# EAGLE library part TS5A3153 (library m-pad)
Ti's TS5A3153 is a single-pole double-throw (SPDT) analog switch Description: The TS5A3153 is a single-pole double-throw (SPDT) analog switch that is designed to operate from 1.65 V to 5.5 V. The device offers a low ON-state resistance and an excellent on-resistance matching with the break-before-make feature, to prevent signal distortion during the transferring of a signal from one channel to another. The device has an excellent total harmonic distortion (THD) performance and consumes very low power. These features make this device suitable for portable audio applications. Features: Isolation in the Powered-Off Mode, V+ = 0 Specified Break-Before-Make Switching Low ON-State Resistance (1 ) Control Inputs Are 5.5-V Tolerant Low Charge Injection Excellent ON-State Resistance Matching Low Total Harmonic Distortion (THD) 1.65-V to 5.5-V Single-Supply Operation Latch-Up Performance Exceeds 100 mA Per JESD 78, Class II ESD Performance Tested Per JESD 22 - 2000-V Human-Body Model (A114-B, Class II) - 1000-V Charged-Device Model (C101) Applications: Cell Phones PDAs Portable Instrumentation Audio and Video Signal Routing Low-Voltage Data Acquisition System Communication Circuits Modems Hard Drives Computer Peripherals Wireless Terminals and Peripherals Please send any comments to: messi@users.sourceforge.net
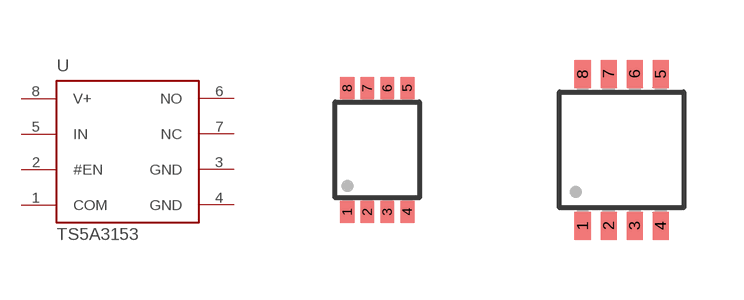
[diagram p180: symbol with the pads of VSSOP8; footprints VSSOP8, SSOP8]

Designator prefix U

## TS5A3153-DCU  [VSSOP8]
1  COM
2  #EN  in
3  GND  pwr
4  GND  pwr
5  IN  in
6  NO
7  NC
8  V+  pwr

## TS5A3153-DCT  [SSOP8]
Pads as for VSSOP8

## Footprint VSSOP8 (pad centres in mm)
smd 0.35 x 0.55: 1 -0.75,-1.55; 2 -0.25,-1.55; 3 0.25,-1.55; 4 0.75,-1.55; 5 0.75,1.55; 6 0.25,1.55; 7 -0.25,1.55; 8 -0.75,1.55

## Footprint SSOP8 (pad centres in mm)
smd 0.4 x 0.7: 1 -0.975,-1.9; 2 -0.325,-1.9; 3 0.325,-1.9; 4 0.975,-1.9; 5 0.975,1.9; 6 0.325,1.9; 7 -0.325,1.9; 8 -0.975,1.9